# Altium schematic symbol library SN74LV4T125.SchLib: 1 symbol
Pins are listed as number, name and electrical type; pins without a type are passive.

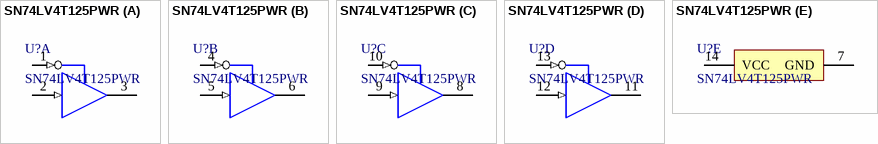
[diagram p0: symbol SN74LV4T125PWR]

## SN74LV4T125PWR
designator U?
Single Power Supply Quadruple Buffer GATE w/ 3-State Output CMOS Logic Level Shifter, PW0014A, LARGE T&R; Manufacturer: Texas Instruments; Number of Elements: 4; Number of Bits per Element: 1; High Level Output Current: 16mA; Quiescent Current: 2uA; Propagation Delay: 11ns; Min Supply Voltage: 1.6V; Max Supply Voltage: 5.5V; Supplier 1: Digi-Key; Manufacturer Part Number: SN74LV4T125PWR; Stock 1: 20583; Pricing 1: 1 = 1.05000, 10 = 0.93600, 100 = 0.72970, 500 = 0.60276, 1000 = 0.47586 (USD); RoHS 1: Yes; Mount: Surface Mount; Case/Package: TSSOP; Number of Pins: 14; Min Operating Temperature: -40°C; Max Operating Temperature: 125°C; Packaging: Tape and Reel; Low Level Output Current: 16mA; Logic Function: Buffer; Number of Bits: 4; Number of Inputs: 1; Package Quantity: 2000; Radiation Hardening: No; Lead Free: Lead Free; REACH SVHC: No SVHC; ComponentLink1URL: https://datasheet.ciiva.com/48438/sn74lv4t125-48438268.pdf?src-supplier=Avnet; ComponentLink1Description: Datasheet (Avnet); Supplier Part Number 1: 296-40545-1-ND
footprint TSOP65P640X120-14M (TSOP, 14-Leads, Body 5.00x4.40mm, Pitch 0.65mm, IPC Low Density)
part A pins: 1 1~{OE} (in) "Enable 1", 2 1A (in) "Input 1", 3 1Y (hiz) "Output 1"
part B pins: 4 2~{OE} (in) "Enable 2", 5 2A (in) "Input 2", 6 2Y (hiz) "Output 2"
part C pins: 8 3Y (hiz) "Output 3", 9 3A (in) "Input 3", 10 3~{OE} (in) "Enable 3"
part D pins: 11 4Y (hiz) "Output 4", 12 4A (in) "Input 4", 13 4~{OE} (in) "Enable 4"
part E pins: 7 GND (power) "Ground Pin", 14 VCC (power) "Power Pin"